# Altium schematic symbol library Schlib1.SchLib: 2 symbols
Pins are listed as number, name and electrical type; pins without a type are passive.

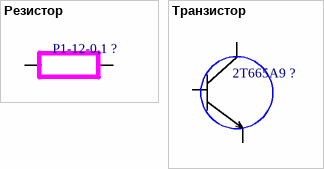
[diagram p0: symbols Резистор to Транзистор]

## Резистор
designator Р1-12-0,1 ?
Резистор Р1-12-0,1 4,7 кОм 5%-M-"A" АЛЯР.434110.005 ТУ
footprint CAPC3225X06N (Chip Capacitor, 2-Leads, Body 3,20x2,50mm, IPC Medium Density)
pins: 1, 2

## Транзистор
designator 2Т665А9 ?
Транзистор 2Т665А9 АЕЯР.432140.605 ТУ
footprint SOT89-150P340X160-3N (SOT89, 3-Leads, Body 4,60x2,60mm, Pitch 1,50mm, Lead Span 3,4mm, IPC Medium Density)
pins: 1, 2, 3